# Altium schematic symbol library lib.SchLib: 8 symbols
Pins are listed as number, name and electrical type; pins without a type are passive.

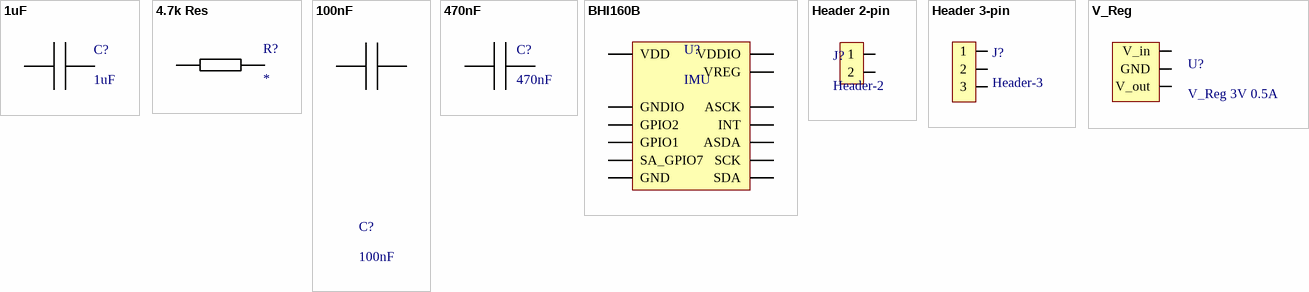
[diagram p0: symbols 1uF to V_Reg]

## 1uF
designator C?
footprint 0805 Passive
pins: 0, 1

## 4.7k Res
designator R?
footprint 0805 Passive
pins: 1, 2

## 100nF
designator C?
footprint 0805 Passive
pins: 0, 1

## 470nF
designator C?
footprint 0805 Passive
pins: 0, 1

## BHI160B
designator U?, comment IMU
footprint BHI160b
pins: 3 GPIO1, 7 ASCK, 8 VDDIO, 9 SA_GPIO7, 10 VREG, 11 GPIO2, 12 INT, 13 VDD, 18 GND, 20 GNDIO, 21 ASDA, 22 SCK, 24 SDA

## Header 2-pin
designator J?, comment Header-2
footprint Header-2
pins: 1, 2

## Header 3-pin
designator J?, comment Header-3
footprint Header-3
pins: 1, 2, 3

## V_Reg
designator U?, comment V_Reg 3V 0.5A
footprint Header-3
pins: 1 V_in, 2 GND, 3 V_out